# EAGLE library part TI_P82B715_P (library Nwazet.Go)
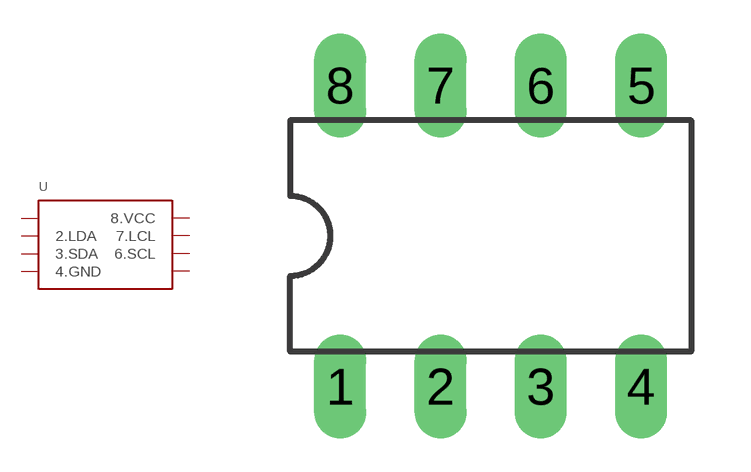
[diagram p23: symbol with the pads of DIL08; footprint DIL08]

Designator prefix -

## TI_P82B715_P  [DIL08]
1  1.NC  nc
2  2.LDA
3  3.SDA
4  4.GND  pas
5  5.NC  nc
6  6.SCL
7  7.LCL
8  8.VCC  pwr

## Footprint DIL08 (pad centres in mm)
Dual In Line Package
drill 0.813 long: 1 -3.81,-3.81; 2 -1.27,-3.81; 3 1.27,-3.81; 4 3.81,-3.81; 5 3.81,3.81; 6 1.27,3.81; 7 -1.27,3.81; 8 -3.81,3.81